# EAGLE library part BTM-182 (library BTM182)
Rayson BTM-182 Bluetooth Modul all Pins
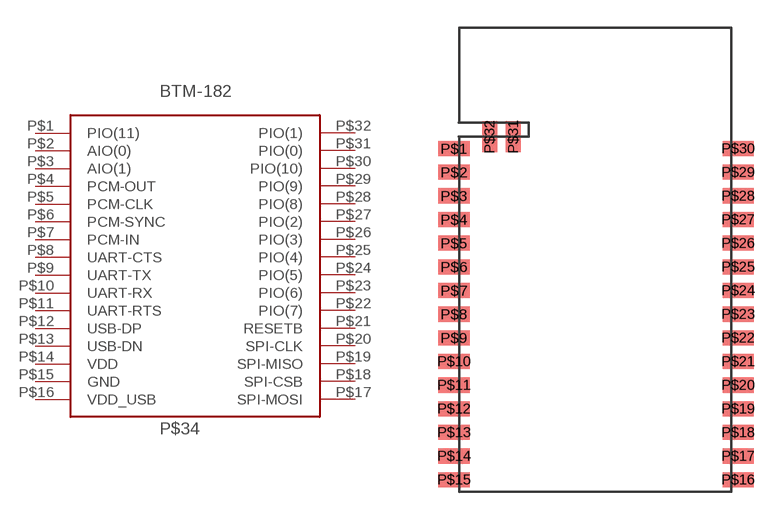
[diagram p1: symbol with the pads of BTM-182; footprint BTM-182]

Designator prefix P$34

## BTM-182  [BTM-182]
P$1  PIO(11)
P$2  AIO(0)
P$3  AIO(1)
P$4  PCM-OUT  out
P$5  PCM-CLK
P$6  PCM-SYNC
P$7  PCM-IN  in
P$8  UART-CTS  in
P$9  UART-TX  out
P$10  UART-RX  in
P$11  UART-RTS  out
P$12  USB-DP
P$13  USB-DN
P$14  VDD  pwr
P$15  GND  pwr
P$16  VDD_USB  pwr
P$17  SPI-MOSI  in
P$18  SPI-CSB  in
P$19  SPI-MISO  out
P$20  SPI-CLK  in
P$21  RESETB  in
P$22  PIO(7)
P$23  PIO(6)
P$24  PIO(5)
P$25  PIO(4)
P$26  PIO(3)
P$27  PIO(2)
P$28  PIO(8)
P$29  PIO(9)
P$30  PIO(10)
P$31  PIO(0)
P$32  PIO(1)

## Footprint BTM-182 (pad centres in mm)
Rayson BTM-182 Bluetooth Modul
smd 1.676 x 0.813: P$1 -7.62,7.62; P$2 -7.62,6.35; P$3 -7.62,5.08; P$4 -7.62,3.81; P$5 -7.62,2.54; P$6 -7.62,1.27; P$7 -7.62,0; P$8 -7.62,-1.27; P$9 -7.62,-2.54; P$10 -7.62,-3.81; P$11 -7.62,-5.08; P$12 -7.62,-6.35; P$13 -7.62,-7.62; P$14 -7.62,-8.89; P$15 -7.62,-10.16; P$16 7.62,-10.16; P$17 7.62,-8.89; P$18 7.62,-7.62; P$19 7.62,-6.35; P$20 7.62,-5.08; P$21 7.62,-3.81; P$22 7.62,-2.54; P$23 7.62,-1.27; P$24 7.62,0; P$25 7.62,1.27; P$26 7.62,2.54; P$27 7.62,3.81; P$28 7.62,5.08; P$29 7.62,6.35; P$30 7.62,7.62
smd 0.813 x 1.676: P$31 -4.445,8.255; P$32 -5.715,8.255